# Altium integrated library Switches-relays.IntLib: 73 symbols
Pins are listed as number, name and electrical type; pins without a type are passive.

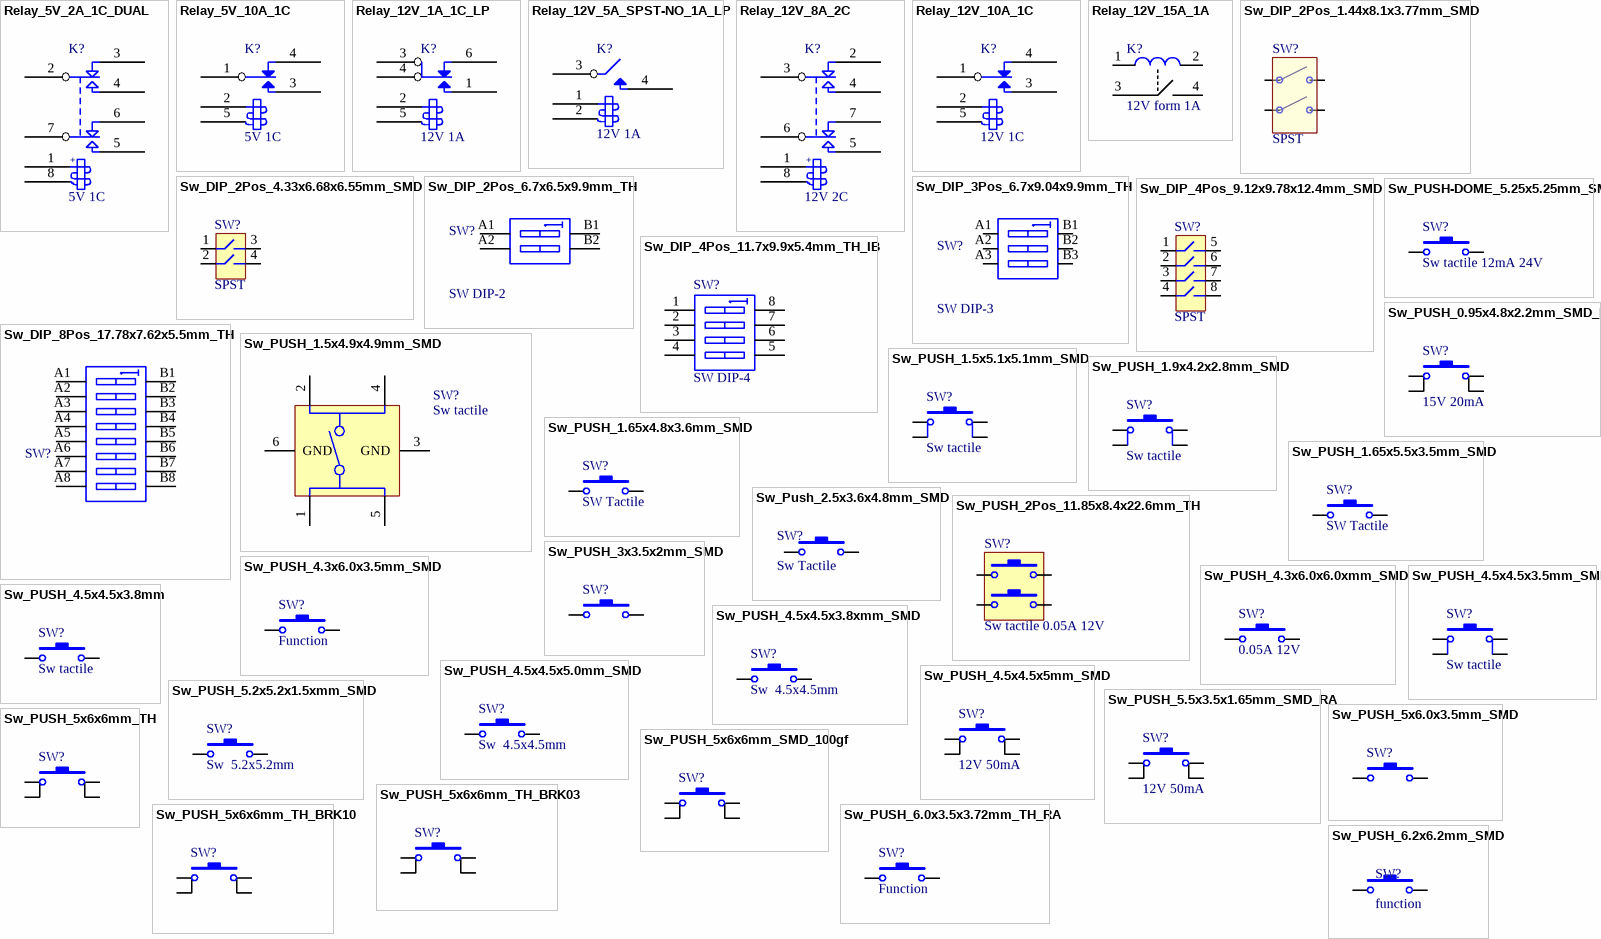
[diagram p0: symbols Relay_5V_2A_1C_DUAL to Sw_PUSH_6.2x6.2mm_SMD]

## Relay_5V_2A_1C_DUAL
designator K?, comment 5V 1C
General Purpose Non Latching 5VDC DPDT Through Hole Relays RoHS; Manufacturer: HongFa; Manufacturer Part Number: HFD27/005-S; Supplier 1: LCSC; Supplier Part Number 1: C23911; Reel Stock: N/A; Last modified by: J.Jaramillo; Last modified date: 20240310; ComponentLink1Description: LCSC; ComponentLink1URL: https://lcsc.com/product-detail/Relays_HF-Xiamen-Hongfa-Electroacoustic-HFD27-005-S_C23911.html
footprint Relay_5V_2A_1C
pins: 1, 2, 3, 4, 5, 6, 7, 8
text: +

## Relay_5V_10A_1C
designator K?, comment 5V 1C
General Purpose Non Latching 5VDC SPDT Through Hole Relays RoHS; Manufacturer: HongFa; Manufacturer Part Number: JQC-3FF-05-1ZS; Supplier 1: LCSC; Supplier Part Number 1: C9221; Reel Stock: N/A; Last modified by: J.Jaramillo; Last modified date: 20240310; ComponentLink1Description: LCSC; ComponentLink1URL: https://lcsc.com/product-detail/Relays_HF-Xiamen-Hongfa-Electroacoustic-JQC-3FF-05-1ZS-551_C9221.html
footprint Relay_12V_10A_1C (/ 20190222 / N-A.Potosi)
pins: 1, 2, 3, 4, 5

## Relay_12V_1A_1C_LP
designator K?, comment 12V 1A
General Purpose Non Latching 12VDC SPDT 1A Through Hole Relays RoHS; Manufacturer: HF(Xiamen Hongfa Electroacoustic); Manufacturer Part Number: HFD23/012-1ZS; Supplier 1: LCSC; Supplier Part Number 1: C3646; Reel Stock: N/A; Last modified by: J.Jaramillo; Last modified date: 20240310; ComponentLink1Description: LCSC; ComponentLink1URL: https://lcsc.com/product-detail/Relays_HF-Xiamen-Hongfa-Electroacoustic-HFD23-012-1ZS_C3646.html
footprint RELAY_12V_1A_1C_LP (/20201013/C-A.Serna.A)
pins: 1, 2, 3, 4, 5, 6

## Relay_12V_5A_SPST-NO_1A_LP
designator K?, comment 12V 1A
General Purpose Non Latching 12VDC SPST-NO 5A Through Hole Relays RoHS; Manufacturer: HF(Xiamen Hongfa Electroacoustic); Manufacturer Part Number: HF32FA/012-HSL1; Supplier 1: LCSC; Supplier Part Number 1: C41117; Reel Stock: N/A; Last modified by: J.Jaramillo; Last modified date: 20240310; ComponentLink1Description: LCSC; ComponentLink1URL: https://lcsc.com/product-detail/Relays_HF-Xiamen-Hongfa-Electroacoustic-HF32FA-012-HSL1_C41117.html
footprint RELAY_12V_5A_SPST-NO_1A_LP (/20201013/C-A.Serna.A)
pins: 1, 2, 3, 4

## Relay_12V_8A_2C
designator K?, comment 12V 2C
General Purpose Non Latching 12VDC DPDT 8A Through Hole Relays RoHS; Manufacturer: HF(Xiamen Hongfa Electroacoustic); Manufacturer Part Number: HF115F/012-2ZS4; Supplier 1: LCSC; Supplier Part Number 1: C163534; Reel Stock: N/A; Last modified by: J.Jaramillo; Last modified date: 20240310; ComponentLink1Description: LCSC; ComponentLink1URL: https://lcsc.com/product-detail/Relays_HF-Xiamen-Hongfa-Electroacoustic-HF115F-012-2ZS4_C163534.html
footprint Relay_12V_8A_2C (/20200408/C-A.Serna.A)
pins: 1, 2, 3, 4, 5, 6, 7, 8
text: +

## Relay_12V_10A_1C
designator K?, comment 12V 1C
RELAY GEN PURPOSE SPDT 10A 12V; Manufacturer: Omron Electronics Inc-EMC Div; Manufacturer Part Number: G5LE-14 DC12; Supplier 1: Digi-Key; Supplier Part Number 1: Z1012-ND; Reel Stock: N/A; Last modified by: J.Jaramillo; Last modified date: 20240310; ComponentLink1Description: Digi-Key; ComponentLink1URL: https://www.digikey.com/product-detail/en/omron-electronics-inc-emc-div/G5LE-14-DC12/Z1012-ND/280369
footprint Relay_5V_2A_1C (/20200131/V-A.Patino)
pins: 1, 2, 3, 4, 5

## Relay_12V_15A_1A
designator K?, comment 12V form 1A
RELAY GEN PURPOSE SPST 15A 12V; Manufacturer: Omron Electronics Inc-EMC Div; Manufacturer Part Number: G5CA-1A-E DC12; Supplier 1: Digi-Key; Supplier Part Number 1: Z2162-ND; Reel Stock: N/A; Last modified by: J.Jaramillo; Last modified date: 20240310; ComponentLink1Description: Digi-Key; ComponentLink1URL: https://www.digikey.com/products/en?keywords=Z2162-ND
footprint Relay_12V_15A_1A_10.9mm (/ 20210512 / J-E.Pachon)
pins: 1, 2, 3, 4

## Sw_DIP_2Pos_1.44x8.1x3.77mm_SMD
designator SW?, comment SPST
SWITCH SLIDE DIP SPST 25MA 24V; Manufacturer: Grayhill Inc.; Manufacturer Part Number: 97R02ST; Supplier 1: Digi-Key; Supplier Part Number 1: GH1374-ND; Reel Stock: N/A; Last modified by: J.Jaramillo; Last modified date: 20240310; ComponentLink1Description: Digi-Key; ComponentLink1URL: https://www.digikey.com/products/en?keywords=97R02ST
footprint Sw_DIP_2Pos_1.44x8.1x3.77mm (/ 20200401/ C-A.Serna.A)
pins: 1, 2, 3, 4

## Sw_DIP_2Pos_4.33x6.68x6.55mm_SMD
designator SW?, comment SPST
SWITCH SLIDE DIP SPST 100MA 20V; Manufacturer: CTS Electrocomponents; Manufacturer Part Number: 219-2MSTR; Supplier 1: Digi-Key; Supplier Part Number 1: CT3114CT-ND; Reel Stock: N/A; Last modified by: J.Jaramillo; Last modified date: 20240310; ComponentLink1Description: Digi-Key; ComponentLink1URL: https://www.digikey.com/product-detail/en/cts-electrocomponents/219-2MSTR/CT3114CT-ND/5875766
footprint Sw_DIP_2Pos_4.33x6.68x6.55mm (/ 20190222 / N-A.Potosi)
pins: 1, 2, 3, 4

## Sw_DIP_2Pos_6.7x6.5x9.9mm_TH
designator SW?, comment SW DIP-2
SWITCH SLIDE DIP SPST 0.025A 24V; Manufacturer: CUI Devices; Manufacturer Part Number: DS01-254-L-02BE; Supplier 1: Digi-Key; Supplier Part Number 1: 2223-DS01-254-L-02BE-ND; Reel Stock: N/A; Last modified by: J.Jaramillo; Last modified date: 20240319; ComponentLink1Description: Digi-Key; ComponentLink1URL: https://www.digikey.com/en/products/detail/cui-devices/DS01-254-L-02BE/11310931
footprint Sw_DIP_2Pos_6.62x6.5x9.9mm (/20240319/J.Jaramillo)
pins: A1, A2, B1, B2

## Sw_DIP_3Pos_6.7x9.04x9.9mm_TH
designator SW?, comment SW DIP-3
SWITCH SLIDE DIP SPST 0.025A 24V; Manufacturer: CUI Devices; Manufacturer Part Number: DS01C-254-L-03BE; Supplier 1: Digi-Key; Supplier Part Number 1: 2223-DS01C-254-L-03BE-ND; Reel Stock: N/A; Last modified by: J.Jaramillo; Last modified date: 2024319; ComponentLink1Description: Digi-Key; ComponentLink1URL: https://www.digikey.com/en/products/detail/cui-devices/DS01C-254-L-03BE/11310858
footprint Sw_DIP_3Pos_6.62x9.04x9.9mm (/ 20240319/ J.Jaramillo)
pins: A1 1, A2, A3, B1, B2, B3

## Sw_DIP_4Pos_9.12x9.78x12.4mm_SMD
designator SW?, comment SPST
SWITCH SLIDE DIP SPST 50MA 24V; Manufacturer: CTS Electrocomponents; Manufacturer Part Number: 204-4ST; Supplier 1: Digi-key; Supplier Part Number 1: CT2044ST-ND; Reel Stock: N/A; Last modified by: J.Jaramillo; Last modified date: 20240310; ComponentLink1Description: Digi-key; ComponentLink1URL: https://www.digikey.com/product-detail/en/cts-electrocomponents/204-4ST/CT2044ST-ND/267300
footprint Sw_DIP_4Pos_9.12x9.78x12.4mm (/ 20190916 / C-D Viveros)
pins: 1, 2, 3, 4, 5, 6, 7, 8

## Sw_DIP_4Pos_11.7x9.9x5.4mm_TH_IB
designator SW?, comment SW DIP-4
SWITCH SLIDE DIP-4WAY; Manufacturer: Cixi Tonver Elec; Manufacturer Part Number: VDG-04HG-R; Supplier 1: LCSC; Supplier Part Number 1: C15781; Reel Stock: N/A; Last modified by: J.Jaramillo; Last modified date: 20240310; ComponentLink1Description: LCSC; ComponentLink1URL: https://lcsc.com/product-detail/DIP-Switches_Cixi-Tonver-Elec-VDG-S-04HG-R_C15781.html
footprint Sw_DIP_4Pos_11.7x9.9x5.4mm_IB (/20200110/V-A.Patino)
pins: 1 A1, 2 A2, 3 A3, 4 A4, 5 B4, 6 B3, 7 B2, 8 B1

## Sw_DIP_8Pos_17.78x7.62x5.5mm_TH
designator SW?, comment SW DIP-8  (value not drawn)
SWITCH SLIDE DIP SPST 0.025A 24V; Manufacturer: CUI Devices; Manufacturer Part Number: DS01C-254-S-08BE; Supplier 1: Digi-Key; Supplier Part Number 1: 2223-DS01C-254-S-08BE-ND; Reel Stock: N/A; Last modified by: J.Jaramillo; Last modified date: 20240311; ComponentLink1Description: Digi-Key; ComponentLink1URL: https://www.digikey.com/en/products/detail/cui-devices/DS01C-254-S-08BE/11310924
footprint Sw_DIP_8Pos_17.78x7.62x5.5mm_TH (/20240310/J.Jaramillo)
pins: A1, A2, A3, A4, A5, A6, A7, A8, B1, B2, B3, B4, B5, B6, B7, B8

## Sw_PUSH-DOME_5.25x5.25mm_SMD
designator SW?, comment Sw tactile 12mA 24V
SWITCH TACTILE SPST-NO 12MA 24V; Manufacturer: Best Sun St. Co.; Manufacturer Part Number: 6-SDL-320 SS; Alternate: PC; Supplier 1: Digi-Key; Supplier Part Number 1: 5134TR; Reel Stock: N/A; Last modified by: J.Jaramillo; Last modified date: 20230616; ComponentLink1Description: Digi-Key; ComponentLink1URL: https://www.digikey.com/en/products/detail/keystone-electronics/5134TR/6834334; ComponentLink2Description: Best Sun St. Co.; ComponentLink2URL: https://bestsuneshop.com/products/metal-dome-6-sdl-320-ss
footprint SW_PUSH-DOME_5.25x5.25MM (/20230210/A-F.Romo)
pins: 1, 2

## Sw_PUSH_0.95x4.8x2.2mm_SMD_RA
designator SW?, comment 15V 20mA
SWITCH TACTILE SPST-NO 0.02A 15V; Manufacturer: Panasonic Electronic Components; Manufacturer Part Number: EVP-AEBB2A; Supplier 1: Digi-Key; Supplier Part Number 1: P15500CT-ND; Reel Stock: N/A; Last modified by: J.Jaramillo; Last modified date: 20240310; ComponentLink1Description: Digi-Key; ComponentLink1URL: https://www.digikey.com/en/products/detail/panasonic-electronic-components/EVP-AEBB2A/3182230?s=N4IgTCBcDaIKIDUAKBaAgnAQpsaQF0BfIA
footprint SW_PUSH_0.95X4.8X2.2MM_SMD_RA (SPST-NO 0.02A 15V / 20211214 / E.Naranjo)
pins: 1, 2, 3 Legs, 4 Legs

## Sw_PUSH_1.5x4.9x4.9mm_SMD
designator SW?, comment Sw tactile
SWITCH TACTILE SPST-NO 0.02A 15V; Manufacturer: Panasonic Electronic Components; Manufacturer Part Number: EVQ-PLHA15; Supplier 1: Digi-Key; Supplier Part Number 1: P8046SCT-ND; Reel Stock: N/A; Last modified by: J.Jaramillo; Last modified date: 20240310; ComponentLink1Description: Digi-Key; ComponentLink1URL: https://www.digikey.com/en/products/detail/panasonic-electronic-components/EVQ-PLHA15/49937?s=N4IgTCBcDaIAoA4AMAWAbAZQMIBUC0AcgCIgC6AvkA
footprint Sw_PUSH_1.5x4.9x4.9mm (/20220629/F-A.Ospina)
pins: 1, 2, 3 GND, 4, 5, 6 GND

## Sw_PUSH_1.5x5.1x5.1mm_SMD
designator SW?, comment Sw tactile
SWITCH TACTILE SPST-NO 0.05A 12V; Manufacturer: Poshton; Manufacturer Part Number: TCL44H-260AH; Supplier 1: Poshton; Supplier Part Number 1: TCL44H; Reel Stock: N/A; Last modified by: J.Jaramillo; Last modified date: 20240310; ComponentLink1Description: Datasheet; ComponentLink1URL: svn://54.94.62.84/Titoma_Altium_Library/Libraries/factory_datasheets
footprint Sw_PUSH_1.5x5.1x5.1mm (/20220823/F-A.Ospina)
pins: 1, 2, 3, 4

## Sw_PUSH_1.9x4.2x2.8mm_SMD
designator SW?, comment Sw tactile
SWITCH TACTILE SPST-NO 50MA 32V; Manufacturer: C&K; Manufacturer Part Number: KMR621NG LFS; Supplier 1: Digi-Key; Supplier Part Number 1: CKN10684CT-ND; Reel Stock: N/A; Last modified by: J.Jaramillo; Last modified date: 20240310; ComponentLink1Description: Digi-Key; ComponentLink1URL: https://www.digikey.com/products/en?keywords=CKN10684CT-ND
footprint Sw_PUSH_1.9x4.2x2.8mm (SPST-NO 50MA 32V / 20190222 / N-A.Potosi)
pins: 1, 2, 3, 4

## Sw_PUSH_1.65x4.8x3.6mm_SMD
designator SW?, comment SW Tactile
Side Actuated 50mA @ 12VDC Plunger for Cap SPST SMD,4.8x3.6x1.65mm Tactile Switches ROHS; Manufacturer: Korean Hroparts Elec; Manufacturer Part Number: K2-1114UA-A4SW-06; Supplier 1: LCSC; Supplier Part Number 1: C223812; Reel Stock: N/A; Last modified by: J.Jaramillo; Last modified date: 20240310; ComponentLink1Description: LCSC; ComponentLink1URL: https://lcsc.com/product-detail/Tactile-Switches_Korean-Hroparts-Elec-K2-1114UA-A4SW-06_C223812.html
footprint SW_PUSH_1.65X4.8X3.6MM (/20210810/J-E.Pachon)
pins: 1, 2

## Sw_PUSH_1.65x5.5x3.5mm_SMD
designator SW?, comment SW Tactile
SWITCH TACTILE SPST-NO 0.05A 12V; Manufacturer: Würth Elektronik; Manufacturer Part Number: 434353045816; Supplier 1: Digikey; Supplier Part Number 1: 732-7058-1-ND; Reel Stock: N/A; Last modified by: J.Jaramillo; Last modified date: 20240310; ComponentLink1Description: Digikey; ComponentLink1URL: https://www.digikey.com/en/products/detail/w%C3%BCrth-elektronik/434353045816/5209091?s=N4IgTCBcDaICwGZEFYEAY7IBwEYBsIAugL5A
footprint SW_PUSH_1.65X5.5X3.5MM (/20210201/J-E.Pachon)
pins: 1, 2

## Sw_Push_2.5x3.6x4.8mm_SMD
designator SW?, comment Sw Tactile
50mA Brick nogging SPST 100MΩ 100000 Times 250gf@±30gf 12V SMD Tactile Switches ROHS; Manufacturer: Korean Hroparts Elec; Manufacturer Part Number: K2-1114UM-B4SW-06; Supplier 1: LCSC; Supplier Part Number 1: C223813; Reel Stock: N/A; Last modified by: J.Jaramillo; Last modified date: 20240310; ComponentLink1Description: LCSC; ComponentLink1URL: https://www.lcsc.com/product-detail/Tactile-Switches_Korean-Hroparts-Elec-K2-1114UM-B4SW-06_C223813.html
footprint SW_PUSH_2.5X3.6X4.8MM_SMD (20230912 / E.Naranjo)
pins: 1, 2

## Sw_PUSH_2Pos_11.85x8.4x22.6mm_TH
designator SW?, comment Sw tactile 0.05A 12V
SWITCH TACTILE SPSTX2 0.05A 12V; Manufacturer: APEM Inc.; Manufacturer Part Number: MJTP2205D; Supplier 1: Digi-Key; Supplier Part Number 1: 679-2458-ND; Reel Stock: N/A; Last modified by: J.Jaramillo; Last modified date: 20240310; ComponentLink1Description: Digi-key; ComponentLink1URL: https://www.digikey.com/products/en?keywords=MJTP2205D
footprint Sw_PUSH_2Pos_8.35x8.4x22.6mm (/ 20190326 / V-A.Patino)
pins: 1, 2, 3, 4

## Sw_PUSH_3x3.5x2mm_SMD
designator SW?, comment Function  (value not drawn)
3mm 2mm Rectangle button 50mA Brick nogging 3.5mm SPST 12V SMD Tactile Switches ROHS; Manufacturer: Korean Hroparts Elec; Manufacturer Part Number: K2-1809SM-A4SW-06; Last modified by: J.Jaramillo; Last modified date: 20240310; Reel Stock: N/A; Supplier 1: LCSC; Supplier Part Number 1: C502305; ComponentLink2Description: LCSC; ComponentLink2URL: https://lcsc.com/product-detail/Tactile-Switches_Korean-Hroparts-Elec-K2-1809SM-A4SW-06_C502305.html
footprint Sw_PUSH_3x3.5x2mm (SPST-NO 50MA 12V / 20220722/ A-F. Romo)
pins: 1, 2

## Sw_PUSH_4.3x6.0x3.5mm_SMD
designator SW?, comment Function
SWITCH TACTILE SPST-NO 0.05A 24V; Manufacturer: TE Connectivity ALCOSWITCH Switches; Manufacturer Part Number: 147873-2; Supplier 1: Digi-Key; Supplier Part Number 1: 450-2049-1-ND; Last modified by: J.Jaramillo; Last modified date: 20240310; ComponentLink1Description: Digi-key; ComponentLink1URL: https://www.digikey.com/en/products/detail/te-connectivity-alcoswitch-switches/147873-2/2400216?s=N4IgTCBcDaICwFYAMBaMS4E4UEYUDkAREAXQF8g; Reel Stock: N/A
footprint Sw_PUSH_4.3x6.0x3.5mm (/ 20190222 / N-A.Potosi)
pins: 1, 2

## Sw_PUSH_4.3x6.0x6.0xmm_SMD
designator SW?, comment 0.05A 12V
SWITCH TACTILE SPST-NO 0.05A 12V; Manufacturer: C&K; Manufacturer Part Number: PTS645SM43SMTR92 LFS; Supplier 1: Digi-Key; Supplier Part Number 1: CKN9112CT-ND; Reel Stock: N/A; Last modified by: J.Jaramillo; Last modified date: 20240310; ComponentLink1Description: Digi-Key; ComponentLink1URL: https://www.digikey.com/products/en?keywords=CKN9112CT-ND
footprint Sw_PUSH_4.3x6.0x6.0xmm (/ 20190222 / N-A.Potosi)
pins: 1, 2

## Sw_PUSH_4.5x4.5x3.5mm_SMD
designator SW?, comment Sw tactile
4.5mm 3.5mm 50mA Round Button Brick nogging 4.5mm 12V SMD Tactile Switches ROHS; Manufacturer: BZCN; Manufacturer Part Number: TSC015A03518A; Supplier 1: LCSC; Supplier Part Number 1: C2888502; Reel Stock: N/A; Last modified by: J.Jaramillo; Last modified date: 20240310; ComponentLink1Description: LCSC; ComponentLink1URL: https://lcsc.com/product-detail/Tactile-Switches_BZCN-TSC015A03518A_C2888502.html
footprint Sw_PUSH_4.5x4.5x3.5mm (Footprint not found)
pins: 1, 2, 3, 4

## Sw_PUSH_4.5x4.5x3.8mm
designator SW?, comment Sw tactile
TACT 4.5 X 4.5, 3.8 MM H, 2.5N,; Manufacturer: C&K; Manufacturer Part Number: PTS 647 SK38 SMTR2 LFS; Supplier 1: Digi-Key; Supplier Part Number 1: PTS647SK38SMTR2LFSCT-ND; Reel Stock: N/A; Last modified by: J.Jaramillo; Last modified date: 20240310; ComponentLink1Description: Digi-Key; ComponentLink1URL: https://www.digikey.com/en/products/detail/c-k/PTS-647-SK38-SMTR2-LFS/9649862
footprint Sw_PUSH_2Pos_4.5x4.5x3.8mm (Footprint not found)
pins: 1, 2

## Sw_PUSH_4.5x4.5x3.8xmm_SMD
designator SW?, comment Sw  4.5x4.5mm
TACT 4.5 X 4.5, 3.8 MM H, 2.5N,; Manufacturer: C&K; Manufacturer Part Number: PTS 647 SK38 SMTR2 LFS; Supplier 1: Digi-Key; Supplier Part Number 1: PTS647SK38SMTR2LFSCT-ND; Reel Stock: N/A; Last modified by: J.Jaramillo; Last modified date: 20240310; ComponentLink1Description: Digi-Key; ComponentLink1URL: https://www.digikey.com/en/products/detail/c-k/PTS-647-SK38-SMTR2-LFS/9649862
footprint Sw_PUSH_4.5x4.5x3.8mm (/20210412/V-A.Patino)
pins: 1, 2

## Sw_PUSH_4.5x4.5x5.0mm_SMD
designator SW?, comment Sw  4.5x4.5mm
TACT 4.5 X 4.5, 5.0 MM H, 1.0N,; Manufacturer: C&K; Manufacturer Part Number: PTS 647 SN50 SMTR2 LFS; Supplier 1: Digi-Key; Supplier Part Number 1: PTS647SN50SMTR2LFSCT-ND; Reel Stock: N/A; Last modified by: J.Jaramillo; Last modified date: 20240310; ComponentLink1Description: Digi-Key; ComponentLink1URL: https://www.digikey.com/en/products/detail/c-k/PTS-647-SN50-SMTR2-LFS/9649857?s=N4IgTCBcDaIAoBUDKA2ALAdiQOQKwAYkBZBAJTABkAxJAYQQFpsAREAXQF8g
footprint Sw_PUSH_4.5x4.5x5.0mm (/20210713M-C.Calderon)
pins: 1, 2

## Sw_PUSH_4.5x4.5x5mm_SMD
designator SW?, comment 12V 50mA
Vertical 50mA @ 12VDC Round Button 260gf SPST SMD,4.5x4.5x5.0mm Tactile Switches ROHS; Manufacturer: XUNPU; Manufacturer Part Number: TS-1009S-05026; Supplier 1: LCSC; Supplier Part Number 1: C455246; Reel Stock: N/A; Last modified by: J.Jaramillo; Last modified date: 20240310; ComponentLink1Description: LCSC; ComponentLink1URL: https://lcsc.com/product-detail/Tactile-Switches_XUNPU-TS-1009S-05026_C455246.html
footprint Sw_PUSH_4.5x4.5x5.0MM_SMD (/20210803/C-D Viveros)
pins: 1, 2, 3, 4

## Sw_PUSH_5.2x5.2x1.5xmm_SMD
designator SW?, comment Sw  5.2x5.2mm
TACT 5.2 X 5.2, 1.5 MM H, 160GF,; Manufacturer: C&K; Manufacturer Part Number: PTS526 SM15 SMTR2 LFS; Supplier 1: Digi-Key; Supplier Part Number 1: CKN12220-1-ND; Reel Stock: N/A; Last modified by: J.Jaramillo; Last modified date: 20240310; ComponentLink1Description: Digi-Key; ComponentLink1URL: https://www.digikey.com/en/products/detail/c-k/PTS526-SM15-SMTR2-LFS/10056625
footprint SW_PUSH_5.2x5.2x1.5mm (/20210512/J-E.Pachon)
pins: 1, 2

## Sw_PUSH_5.5x3.5x1.65mm_SMD_RA
designator SW?, comment 12V 50mA
SWITCH TACTILE SPST-NO 0.05A 12V; Manufacturer: Würth Elektronik; Manufacturer Part Number: 434353045816; Supplier 1: Digi-Key; Supplier Part Number 1: 732-7058-1-ND; Reel Stock: N/A; Last modified by: J.Jaramillo; Last modified date: 20240310; ComponentLink1Description: Digi-Key; ComponentLink1URL: https://www.digikey.com/en/products/detail/w%C3%BCrth-elektronik/434353045816/5209091?s=N4IgTCBcDaICwGZEFYEAY7IBwEYBsIAugL5A
footprint Sw_PUSH_5.5x3.5x1.65mm_SMD_RA (/20210622/C-D Viveros)
pins: 1, 2, 3, 4

## Sw_PUSH_5x6.0x3.5mm_SMD
designator SW?, comment 12V 50mA  (value not drawn)
SWITCH TACTILE SPST-NO 0.05A 12V; Manufacturer: CTS Electrocomponents; Manufacturer Part Number: 222BMVBAR; Last modified by: J.Jaramillo; Last modified date: 20240310; ComponentLink1Description: Datasheet; ComponentLink1URL: www.te.com/commerce/DocumentDelivery/DDEController?Action=srchrtrv&DocNm=147873&DocType=Customer+Drawing&DocLang=English; Reel Stock: N/A; Supplier 1: Digi-Key; Supplier Part Number 1: CT3090CT-ND; ComponentLink2Description: Digi-Key; ComponentLink2URL: https://www.digikey.com/en/products/detail/cts-electrocomponents/222BMVBAR/5227983?s=N4IgTCBcDaIMIBUDMAGAnCxBaAcgERAF0BfIA
footprint Sw_PUSH_5x6.0x3.5mm (/ 20190222 / N-A.Potosi)
pins: 1, 2

## Sw_PUSH_5x6x6mm_SMD_100gf
designator SW?, comment 12V 50mA  (value not drawn)
No NO Gull Wing 50mA 6mm 100mΩ 300000 12V 100gf -20℃~+70℃ 6mm 5mm Black Round Button Brick nogging SPST SMD Tactile Switches ROHS; Manufacturer: XKB Connectivity; Manufacturer Part Number: TS-1102S-A-C-B; Last modified by: J.Jaramillo; Last modified date: 20240310; ComponentLink1Description: LCSC; ComponentLink1URL: https://lcsc.com/product-detail/Tactile-Switches_XKB-Connectivity-TS-1102S-A-C-B_C692471.html; Reel Stock: N/A; Supplier 1: LCSC; Supplier Part Number 1: C692471
footprint SW_PUSH_6X6X5MM_SMD (/20220503/V-A.Patino)
pins: 1, 2, 3, 4

## Sw_PUSH_5x6x6mm_TH
designator SW?, comment 24V 50mA  (value not drawn)
SWITCH TACTILE SPST-NO 0.05A 24V; Manufacturer: TE Connectivity ALCOSWITCH Switches; Manufacturer Part Number: 1825910-7; Last modified by: J.Jaramillo; Last modified date: 20240310; ComponentLink1Description: Digi-key; ComponentLink1URL: https://www.digikey.com/product-detail/en/te-connectivity-alcoswitch-switches/1825910-7/450-1804-ND/1731414; Reel Stock: N/A; Supplier 1: Digi-Key; Supplier Part Number 1: 450-1804-ND
footprint SW_PUSH_5X6X6MM_TH (/ C.D Viveros/ 20190823)
pins: 1, 2, 3, 4

## Sw_PUSH_5x6x6mm_TH_BRK03
designator SW?, comment 12V 50mA  (value not drawn)
SPST 50mA @ 12VDC Vertical Round Button Through Hole Tactile Switches RoHS; Manufacturer: Korean Hroparts Elec; Manufacturer Part Number: K2-1102DP-C4SW-04; Last modified by: J.Jaramillo; Last modified date: 20240310; ComponentLink1Description: LCSC; ComponentLink1URL: https://lcsc.com/product-detail/Tactile-Switches_Korean-Hroparts-Elec-K2-1102DP-C4SW-04_C110153.html; Reel Stock: N/A; Supplier 1: LCSC; Supplier Part Number 1: C110153
footprint SW_PUSH_5X6X6MM_TH (/ 20220420 / A-F. Romo)
pins: 1, 2, 3, 4

## Sw_PUSH_5x6x6mm_TH_BRK10
designator SW?, comment 12V 50mA  (value not drawn)
50mA Straight SPST 12V Plugin Tactile Switches ROHS; Manufacturer: SHOU HAN; Manufacturer Part Number: TS665CJ; Last modified by: J.Jaramillo; Last modified date: 20240310; ComponentLink1Description: LCSC; ComponentLink1URL: https://lcsc.com/product-detail/Tactile-Switches_SHOU-HAN-TS665CJ_C393938.html; Reel Stock: N/A; Supplier 1: LCSC; Supplier Part Number 1: C393938
footprint SW_PUSH_5X6X6MM_TH (/ C.D Viveros/ 20190823)
pins: 1, 2, 3, 4

## Sw_PUSH_6.0x3.5x3.72mm_TH_RA
designator SW?, comment Function
SWITCH TACTILE SPST-NO 0.05A 12V; Manufacturer: APEM Inc.; Manufacturer Part Number: MJTP1117; Supplier 1: Digi-Key; Supplier Part Number 1: 679-2400-ND; Last modified by: J.Jaramillo; Last modified date: 20240310; ComponentLink1Description: Digi-key; ComponentLink1URL: https://www.digikey.com/en/products/detail/apem-inc/MJTP1117/1795496?s=N4IgTCBcDaIGwHYCcBaMAWADJlA5AIiALoC%2BQA; Reel Stock: N/A
footprint Sw_PUSH_6.0x3.5x3.72mm_TH_RA (/ 20210831 / N-A.Potosi)
pins: 1, 2

## Sw_PUSH_6.2x6.2mm_SMD
designator SW?, comment function
SWITCH TACTILE SPST-NO 0.05A 32V; Manufacturer: C&K; Manufacturer Part Number: KSC741J LFS; Supplier 1: Digi-Key; Supplier Part Number 1: CKN10309CT-ND; Reel Stock: N/A; Last modified by: J.Jaramillo; Last modified date: 20240310; ComponentLink1Description: Digi-key; ComponentLink1URL: https://www.digikey.com/en/products/detail/c-k/KSC741J-LFS/2414968?s=N4IgTCBcDaIMIGkByBGADAZjQTjgFQFokAREAXQF8g
footprint Sw_PUSH_6.2x6.2mm_SMD (/20230904/J-E.Pachon)
pins: 1, 2

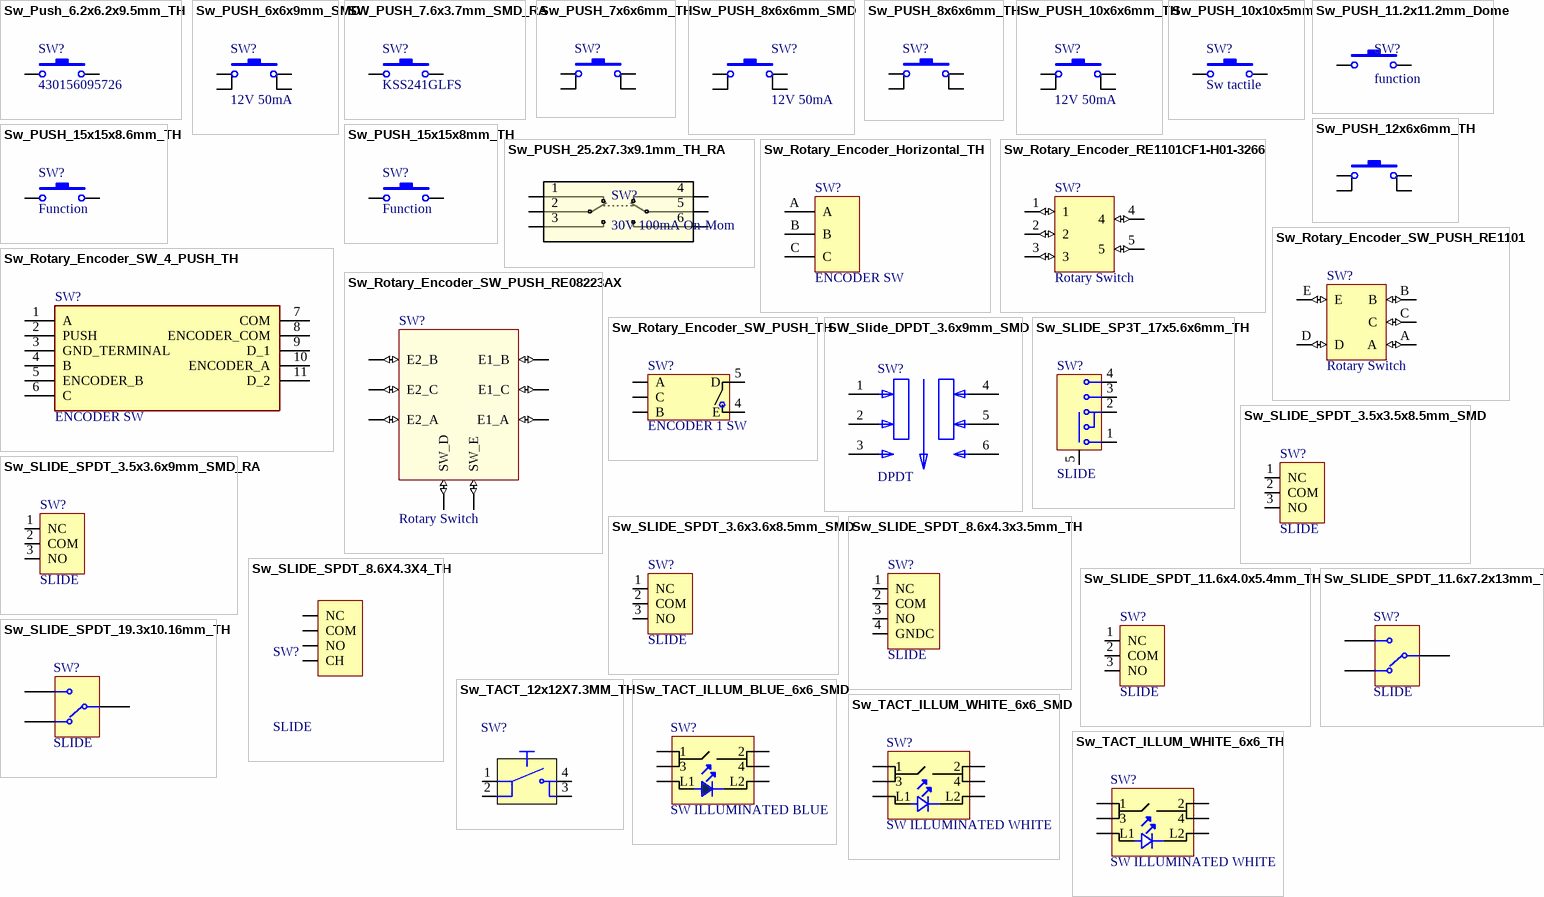
[diagram p1: symbols Sw_Push_6.2x6.2x9.5mm_TH to Sw_TACT_ILLUM_WHITE_6x6_TH]

## Sw_Push_6.2x6.2x9.5mm_TH
designator SW?, comment 430156095726
SWITCH TACTILE SPST-NO 0.05A 12V; Manufacturer: Würth Elektronik; Manufacturer Part Number: 430156095726; Supplier 1: Digi-Key; Supplier Part Number 1: 430156095726-ND; Reel Stock: N/A; Last modified by: J.Jaramillo; Last modified date: 20240310; ComponentLink1Description: Digi-Key; ComponentLink1URL: https://www.digikey.com/en/products/detail/w%C3%BCrth-elektronik/430156095726/5209012?s=N4IgTCBcDaICwGYAMBGArANiQTjQdjAxAF0BfIA
footprint Sw_Push_6.2x6.2x9.5mm_TH (/20220804/J-E.Pachon)
pins: 1, 2

## Sw_PUSH_6x6x9mm_SMD
designator SW?, comment 12V 50mA
6-X-6-MM,-9-MM-ACTUATOR-HEIGHT; Manufacturer: Xumpu; Manufacturer Part Number: TS-1002S-09026C; Supplier 1: LCSC; Supplier Part Number 1: C455118; Reel Stock: N/A; Last modified by: J.Jaramillo; Last modified date: 20240310; ComponentLink1Description: LCSC; ComponentLink1URL: https://lcsc.com/product-detail/Tactile-Switches_XUNPU-TS-1002S-09026C_C455118.html
footprint SW_PUSH_6X6X9MM_SMD (/20210826/M-C.Calderon)
pins: 1, 2, 3, 4

## SW_PUSH_7.6x3.7mm_SMD_RA
designator SW?, comment KSS241GLFS
SWITCH TACTILE SPST-NO 0.05A 50V; Manufacturer: C&K; Manufacturer Part Number: KSS241GLFS; Supplier 1: Digi-Key; Supplier Part Number 1: 401-1099-1-ND; Reel Stock: N/A; Last modified by: J.Jaramillo; Last modified date: 20240310; ComponentLink1Description: Digi-Key; ComponentLink1URL: https://www.digikey.com/en/products/detail/c-k/KSS241GLFS/417669?s=N4IgTCBcDaINIGUFgCwEYDiAZAYgkAugL5A
footprint SW_PUSH_7.6X3.7X1.7MM (20220517 / E.Naranjo)
pins: 1, 2

## Sw_PUSH_7x6x6mm_TH
designator SW?, comment 12V 50mA  (value not drawn)
-25℃~+85℃ 6mm 7mm Round Button 50mA Straight 6mm SPST 100MΩ 100000 250gf@±30gf 12V Plugin Tactile Switches ROHS; Manufacturer: Korean Hroparts Elec; Manufacturer Part Number: K2-1102DP-G4SW-04; Last modified by: J.Jaramillo; Last modified date: 20240310; ComponentLink1Description: LCSC; ComponentLink1URL: https://lcsc.com/product-detail/Tactile-Switches_Korean-Hroparts-Elec-K2-1102DP-G4SW-04_C136681.html; Reel Stock: N/A; Supplier 1: LCSC; Supplier Part Number 1: C136681
footprint SW_PUSH_7X6X6MM_TH (/ 20210112/ C-D Viveros)
pins: 1, 2, 3, 4

## Sw_PUSH_8x6x6mm_SMD
designator SW?, comment 12V 50mA
SPST 50mA @ 12VDC Vertical Round Button 6*6*8mm Tactile Switches RoHS; Manufacturer: Korean Hroparts Elec; Manufacturer Part Number: K2-6639SP-I4SC-04; Supplier 1: LCSC; Supplier Part Number 1: C879455; Reel Stock: N/A; Last modified by: J.Jaramillo; Last modified date: 20221123; ComponentLink1Description: LCSC; ComponentLink1URL: https://lcsc.com/product-detail/Tactile-Switches_Korean-Hroparts-Elec-K2-6639SP-I4SC-04_C879455.html
footprint SW_PUSH_8X6X6MM_SMD (/20221123/N-A.potosi)
pins: 1, 2, 3, 4

## Sw_PUSH_8x6x6mm_TH
designator SW?, comment 12V 50mA  (value not drawn)
SPST 50mA @ 12VDC Vertical Round Button 6*6*8mm Tactile Switches RoHS; Manufacturer: Korean Hroparts Elec; Manufacturer Part Number: K2-1102DP-I4SW-04; Last modified by: J.Jaramillo; Last modified date: 20240310; ComponentLink1Description: LCSC; ComponentLink1URL: https://lcsc.com/product-detail/Tactile-Switches_Korean-Hroparts-Elec-K2-1102DP-I4SW-04_C134186.html; Reel Stock: N/A; Supplier 1: LCSC; Supplier Part Number 1: C134186
footprint SW_PUSH_8X6X6MM_TH (/ 20210429/ M-C.Calderon)
pins: 1, 2, 3, 4

## Sw_PUSH_10x6x6mm_TH
designator SW?, comment 12V 50mA
6-X-6-MM,-10-MM-ACTUATOR-HEIGHT; Manufacturer: Korean Hroparts Elec; Manufacturer Part Number: K2-1102DP-M4SW-04; Supplier 1: LCSC; Supplier Part Number 1: C136678; Reel Stock: N/A; Last modified by: J.Jaramillo; Last modified date: 20240310; ComponentLink1Description: LCSC; ComponentLink1URL: https://lcsc.com/product-detail/Tactile-Switches_Korean-Hroparts-Elec-K2-1102DP-M4SW-04_C136678.html
footprint SW_PUSH_10X6X6MM_TH (/ 20220420 / A-F. Romo)
pins: 1, 2, 3, 4

## Sw_PUSH_10x10x5mm
designator SW?, comment Sw tactile
SPST 50mA @ 12VDC Vertical Round Button Through Hole Tactile Switches RoHS; Manufacturer: C&K; Manufacturer Part Number: KMR621NG LFS; Supplier 1: LCSC; Supplier Part Number 1: C139776; Reel Stock: N/A; Last modified by: J.Jaramillo; Last modified date: 20240310; ComponentLink1Description: Digi-Key; ComponentLink1URL: https://lcsc.com/product-detail/Tactile-Switches_ALPSALPINE-SKQBASA010_C139776.html
footprint Sw_PUSH_2Pos_10x10x5mm (/ 20210709/N-A.Potosi)
pins: 1, 2

## Sw_PUSH_11.2x11.2mm_Dome
designator SW?, comment function
SWITCH TACTILE DOME; Manufacturer: NICEONE; Manufacturer Part Number: 12-L-600; Supplier 1: NICEONE; Supplier Part Number 1: 12-L-600; Reel Stock: N/A; Last modified by: J.Jaramillo; Last modified date: 20240310; ComponentLink1Description: Datasheet; ComponentLink1URL: https://drive.google.com/drive/u/0/folders/1QsDjL2rKrWgpuPQGF-iNHu-r0ZJZP7Db
footprint Sw_PUSH_11.2x11.2mm_Dome (/20230904/J-E.Pachon)
pins: 1, 2

## Sw_PUSH_12x6x6mm_TH
designator SW?, comment 12V 50mA  (value not drawn)
-25℃~+85℃ 6mm 12mm Round Button 50mA Straight 6mm SPST 100MΩ 100000 250gf@±30gf 12V Plugin Tactile Switches ROHS; Manufacturer: Korean Hroparts Elec; Manufacturer Part Number: K2-1102DP-Q4SW-04; Last modified by: J.Jaramillo; Last modified date: 20240310; ComponentLink1Description: LCSC; ComponentLink1URL: https://lcsc.com/product-detail/Tactile-Switches_Korean-Hroparts-Elec-K2-1102DP-Q4SW-04_C136675.html; Reel Stock: N/A; Supplier 1: LCSC; Supplier Part Number 1: C136675
footprint SW_PUSH_12X6X6MM_TH (/ 20210112/ C-D Viveros)
pins: 1, 2, 3, 4

## Sw_PUSH_15x15x8.6mm_TH
designator SW?, comment Function
Push-on type S. P. S. T 12V 10mA Blue; Manufacturer: Kailh; Manufacturer Part Number: CPG135301D03; Supplier 1: Kailh; Supplier Part Number 1: CPG135301D03; Reel Stock: N/A; Last modified by: J.Jaramillo; Last modified date: 20240310; ComponentLink1Description: Kailh; ComponentLink1URL: http://www.kailh.com/en/Products/Ks/CS/757.html
footprint Sw_PUSH_2Pos_15X15X8.6mm (Kalilh Choc/ 20210226/ N-A.Potosi)
pins: 1, 2

## Sw_PUSH_15x15x8mm_TH
designator SW?, comment Function
Push-on type S. P. S. T 12V 10mA; Manufacturer: Kailh; Manufacturer Part Number: CPG135001D03; Supplier 1: LCSC; Supplier Part Number 1: C400231; Reel Stock: N/A; Last modified by: J.Jaramillo; Last modified date: 20240310; ComponentLink1Description: LCSC; ComponentLink1URL: https://lcsc.com/product-detail/Tactile-Switches_Kailh-CPG135001D03_C400231.html
footprint Sw_PUSH_2Pos_15X15X8mm (Kalilh Choc/ 20210226/ N-A.Potosi)
pins: 1, 2

## Sw_PUSH_25.2x7.3x9.1mm_TH_RA
designator SW?, comment 30V 100mA On-Mom
SWITCH PUSH DPDT 0.1A 30V; Manufacturer: E-Switch; Manufacturer Part Number: PBH2UOASNPNAGX; Supplier 1: Digi-Key; Supplier Part Number 1: 141-PBH2UOASNPNAGX-ND; Reel Stock: N/A; Last modified by: J.Jaramillo; Last modified date: 20240310; ComponentLink1Description: Digi-Key; ComponentLink1URL: https://www.digikey.com/en/products/detail/e-switch/PBH2UOASNPNAGX/16019233?s=N4IgTCBcDaIAoCEASYCqB5AggZQHJ10wHEANEAXQF8g
footprint Sw_PUSH_25.2x7.3x9.1mm_TH_RA (/20230810/J-A.Sepulveda)
pins: 1, 2, 3, 4, 5, 6

## Sw_Rotary_Encoder_Horizontal_TH
designator SW?, comment ENCODER SW
Through Hole Coded Rotary Switches ROHS; Manufacturer: ALPSALPINE; Manufacturer Part Number: EC11B15202AN; Supplier 1: LCSC; Supplier Part Number 1: C470697; Reel Stock: N/A; Last modified by: J.Jaramillo; Last modified date: 20240310; ComponentLink1Description: LCSC; ComponentLink1URL: https://lcsc.com/product-detail/Coded-Rotary-Switches_ALPSALPINE-EC11B15202AN_C470697.html
footprint SW_ROTARY_ENCODER_EC11B15202AN (/20210902/M-C.Calderon)
pins: A, B, C

## Sw_Rotary_Encoder_RE1101CF1-H01-3266
designator SW?, comment Rotary Switch
ENCODER SINGLE, 25MM LONG WITH BUTTON; Manufacturer: LJV; Manufacturer Part Number: RE1101CF1-H01-3266; Supplier 1: LJV; Supplier Part Number 1: RE1101CF1-H01-3266; Reel Stock: N/A; Last modified by: J.Jaramillo; Last modified date: 20240310
footprint SW_ROTARY_ENCODER_RE1101CF1-H01-3266 (/20210827/M-C.Calderon)
pins: 1 (io), 2 (io), 3 (io), 4 (io), 5 (io)

## Sw_Rotary_Encoder_SW_4_PUSH_TH
designator SW?, comment ENCODER SW
MULTI DIRECTIONAL SWITCH ENCODER; Manufacturer: ALPSALPINE; Manufacturer Part Number: RKJXT1F42001; Supplier 1: LCSC; Supplier Part Number 1: C160841; Reel Stock: N/A; Last modified by: J.Jaramillo; Last modified date: 20240310; ComponentLink1Description: LCSC; ComponentLink1URL: https://lcsc.com/product-detail/Multi-Directional-Switches_ALPSALPINE-RKJXT1F42001_C160841.html
footprint SW_ROTARY_ENCODER_RKJXT1F42001_11 (/20210728/M-C.Calderon)
pins: 1 A, 2 PUSH, 3 GND_TERMINAL, 4 B, 5 ENCODER_B, 6 C, 7 COM, 8 ENCODER_COM, 9 D_1, 10 ENCODER_A, 11 D_2

## Sw_Rotary_Encoder_SW_PUSH_RE1101
designator SW?, comment Rotary Switch
ROTATORY SWITCH ENCODER; Manufacturer: LJV; Manufacturer Part Number: RE1101CE1-H01-5023; Supplier 1: Ainuowei; Supplier Part Number 1: RE1101CE1-H01-5023; Reel Stock: N/A; Last modified by: J.Jaramillo; Last modified date: 20240310
footprint SW_ROTARY_ENCODER_RE1101CE1-H01-5023 (/20210818/C-D Viveros)
pins: A (io), B (io), C (io), D (io), E (io)

## Sw_Rotary_Encoder_SW_PUSH_RE08223AX
designator SW?, comment Rotary Switch
ROTARY SWITCH ENCODER; Manufacturer: LJV; Manufacturer Part Number: RE08223AX-V02-0493; Supplier 1: LJV; Supplier Part Number 1: RE08223AX-V02-0493; Reel Stock: N/A; Last modified by: J.Jaramillo; Last modified date: 20240310; ComponentLink1Description: Datasheet; ComponentLink1URL: http://ljvraphael.blogspot.com/2016/08/ljv-dual-shaft-rotary-encoder-re08223ax.html
footprint SW_ROTARY_ENCODER_RE08223AX-V02-0493 (/20210831/N-A.Potosi)
pins: E1_A (io), E1_B (io), E1_C (io), E2_A (io), E2_B (io), E2_C (io), SW_D (io), SW_E (io)

## Sw_Rotary_Encoder_SW_PUSH_TH
designator SW?, comment ENCODER 1 SW
ROTARY ENCODER MECHANICAL 24PPR; Manufacturer: TT Electronics/BI; Manufacturer Part Number: EN12-HS22AF20; Supplier 1: Digi-Key; Supplier Part Number 1: 987-1195-ND; Reel Stock: N/A; Last modified by: J.Jaramillo; Last modified date: 20240310; ComponentLink1Description: Digi-Key; ComponentLink1URL: https://www.digikey.com/en/products/detail/tt-electronics-bi/EN12-HS22AF20/2408773
footprint Sw_Rotary_Encoder_Sw_Push_20x14x13.2MM (/ V-A.Patino/ 20201230)
pins: 1 A, 2 C, 3 B, 4 E, 5 D

## SW_Slide_DPDT_3.6x9mm_SMD
designator SW?, comment DPDT
SWITCH SLIDE DPDT 300MA 6V; Manufacturer: C&K; Manufacturer Part Number: JS202011SCQN; Supplier 1: Digi-Key; Supplier Part Number 1: 401-2002-1-ND; Reel Stock: N/A; Last modified by: J.Jaramillo; Last modified date: 20240310; ComponentLink1Description: Digi-Key; ComponentLink1URL: https://www.digikey.com/en/products/detail/c-k/JS202011SCQN/2094299
footprint SW_Slide_DPDT_3.6x9mm_SMD (/20220503/J-E.Pachon)
pins: 1, 2, 3, 4, 5, 6

## Sw_SLIDE_SP3T_17x5.6x6mm_TH
designator SW?, comment SLIDE
SWITCH SLIDE SP3T 200MA 30V; Manufacturer: C&K; Manufacturer Part Number: OS103012MU1QP1; Supplier 1: Digi-Key; Supplier Part Number 1: CKN9552-ND; Reel Stock: N/A; Last modified by: J.Jaramillo; Last modified date: 20240310; ComponentLink1Description: Digi-Key; ComponentLink1URL: https://www.digikey.com/en/products/detail/c-k/OS103012MU1QP1/1981423?s=N4IgTCBcDaIPIGUCMAGAzCpYCyBVJAigApIgC6AvkA
footprint Sw_SLIDE_SP3T_17x5.6x7.7mm_TH (/20210512/ J-E.Pachon)
pins: 1, 2 COM, 3, 4, 5

## Sw_SLIDE_SPDT_3.5x3.5x8.5mm_SMD
designator SW?, comment SLIDE
SWITCH SLIDE SPDT 200MA 12V; Manufacturer: Nidec Copal Electronics; Manufacturer Part Number: CL-SB-12B-01T; Supplier 1: Digi-Key; Supplier Part Number 1: 563-1318-1-ND; Reel Stock: N/A; Last modified by: J.Jaramillo; Last modified date: 20240310; ComponentLink1Description: Digi-Key; ComponentLink1URL: https://www.digikey.com/en/products/detail/nidec-copal-electronics/CL-SB-12B-01T/3507823?s=N4IgTCBcDaIMIBkC0BlAQkgjGDAGTAKiALoC%2BQA
footprint Sw_SLIDE_SPDT_3.5x3.5x8.5mm (/20201215/M-C.Calderon)
pins: 1 NC, 2 COM, 3 NO

## Sw_SLIDE_SPDT_3.5x3.6x9mm_SMD_RA
designator SW?, comment SLIDE
SWITCH SLIDE SPDT 300MA 6V; Manufacturer: C&K; Manufacturer Part Number: JS102011SAQN; Supplier 1: Digi-Key; Supplier Part Number 1: 401-1999-1-ND; Reel Stock: N/A; Last modified by: J.Jaramillo; Last modified date: 20240310; ComponentLink1Description: Digi-Key; ComponentLink1URL: https://www.digikey.com/product-detail/en/c-k/JS102011SAQN/401-1999-1-ND/1640114
footprint Sw_SLIDE_SPDT_3.5x3.6x9mm
pins: 1 NC, 2 COM, 3 NO

## Sw_SLIDE_SPDT_3.6x3.6x8.5mm_SMD
designator SW?, comment SLIDE
SWITCH SLIDE SPDT 300MA 6V; Manufacturer: C&K; Manufacturer Part Number: JS102011JCQN; Supplier 1: Digi-Key; Supplier Part Number 1: CKN10721CT-ND; Reel Stock: N/A; Last modified by: J.Jaramillo; Last modified date: 20240310; ComponentLink1Description: Digi-Key; ComponentLink1URL: https://www.digikey.com/product-detail/en/c-k/JS102011JCQN/CKN10721CT-ND/6137635
footprint Sw_SLIDE_SPDT_3.6x3.6x8.5mm_SMD (/ 20191008 / C-D Viveros)
pins: 1 NC, 2 COM, 3 NO

## Sw_SLIDE_SPDT_8.6x4.3x3.5mm_TH
designator SW?, comment SLIDE
SWITCH SLIDE SPDT 200MA 30V; Manufacturer: TE Connectivity ALCOSWITCH Switches; Manufacturer Part Number: 1825232-1; Supplier 1: Digi-Key; Supplier Part Number 1: A107673-ND; Reel Stock: N/A; Last modified by: J.Jaramillo; Last modified date: 20240310; ComponentLink1Description: Digi-Key; ComponentLink1URL: https://www.digikey.com/product-detail/es/te-connectivity-alcoswitch-switches/1825232-1/A107673-ND/4021554
footprint Sw_SLIDE_SPDT_8.6x4.3x3.5mm_TH (/ 20191211 / C-D Viveros)
pins: 1 NC, 2 COM, 3 NO, 4 GNDC

## Sw_SLIDE_SPDT_8.6X4.3X4_TH
designator SW?, comment SLIDE
SWITCH SLIDE SPDT 100MA 12V; Manufacturer: C&K; Manufacturer Part Number: OS102011MS2QN1; Supplier 1: Digi-Key; Supplier Part Number 1: CKN9565-ND; Reel Stock: N/A; Last modified by: J.Jaramillo; Last modified date: 20240310; ComponentLink1Description: Digi-Key; ComponentLink1URL: https://www.digikey.com/en/products/detail/c-k/OS102011MS2QN1/411602; ComponentLink2Description: Datasheet; ComponentLink2URL: chrome-extension://efaidnbmnnnibpcajpcglclefindmkaj/https://www.ckswitches.com/media/1428/os.pdf
footprint Sw_SLIDE_SPDT_8.86x4.5x4.8mm_TH (/ 20231112 / J.Jaramillo)
pins: 1 NC, 2 COM, 3 NO, CH

## Sw_SLIDE_SPDT_11.6x4.0x5.4mm_TH
designator SW?, comment SLIDE
SWITCH SLIDE SPDT 200MA 30V; Manufacturer: E-Switch; Manufacturer Part Number: EG1218; Supplier 1: Digi-Key; Supplier Part Number 1: EG1903-ND; Reel Stock: N/A; Last modified by: J.Jaramillo; Last modified date: 20240310; ComponentLink1Description: Digi-Key; ComponentLink1URL: https://www.digikey.com/product-detail/en/e-switch/EG1218/EG1903-ND/101726
footprint Sw_SLIDE_SPDT_11.6x4.0x5.4mm_TH (/ 20190916 / C-D Viveros)
pins: 1 NC, 2 COM, 3 NO

## Sw_SLIDE_SPDT_11.6x7.2x13mm_TH
designator SW?, comment SLIDE
Straight 6A SPDT 120V 6.6mm 120V 13mm 7.2mm 6A PCPin 10000 Rectangular columnar -40℃~+85℃ Black Plugin Slide Switches ROHS; Manufacturer: XKB Connectivity; Manufacturer Part Number: SS-12M11G5; Supplier 1: LCSC; Supplier Part Number 1: C2879839; Reel Stock: N/A; Last modified by: J.Jaramillo; Last modified date: 20240310; ComponentLink1Description: LCSC; ComponentLink1URL: https://lcsc.com/product-detail/Slide-Switches_XKB-Connectivity-SS-12M11G5_C2879839.html
footprint SW_SLIDE_SPDT_11.6X7.2X13MM (20220902 / E.Naranjo)
pins: 1, 2, 3

## Sw_SLIDE_SPDT_19.3x10.16mm_TH
designator SW?, comment SLIDE
SWITCH SLIDE SPDT 4A 125V; Manufacturer: C&K; Manufacturer Part Number: L102021ML04Q; Reel Stock: N/A; Last modified by: J.Jaramillo; Last modified date: 20240310; Supplier 1: Digi-Key; Supplier Part Number 1: CKC5102-ND; ComponentLink1Description: Digi-key; ComponentLink1URL: https://www.digikey.com/product-detail/en/c-k/L102021ML04Q/CKC5102-ND/181454
footprint SW_SLIDE_SPDT_19.3x10.16mm (20190327 / V-A.Patino)
pins: 1 pos1, 2 com, 3 pos2

## Sw_TACT_12x12X7.3MM_TH
designator SW?, comment SW TACTILE 12MMX12MM  (value not drawn)
Tactile Switches SPST 12x12mm Std Ht .3 High-force 260g; Manufacturer: Omron Electronics; Manufacturer Part Number: B3F-4055; Supplier 1: LCSC; Supplier Part Number 1: C84931; Reel Stock: N/A; Last modified by: J.Jaramillo; Last modified date: 200326; ComponentLink1Description: LCSC; ComponentLink1URL: https://www.lcsc.com/product-detail/C84931.html; ComponentLink2Description: Datasheet; ComponentLink2URL: https://www.lcsc.com/datasheet/C84931.pdf?spm=wm.sxq.inf.ggs&lcsc_vid=QFgKXlMHQFdeXgVREVdcUFdXFQMMXlADQgBeUQdfR1ExVlNRQ1FcUlVSQlZcVDsOAxUeFF5JWBYZEEoBGA4JCwFIFA4DSA%3D%3D
footprint SW_TACT_12X12x7.3mm_TH (/200326/J.Jaramillo)
pins: 1 COM, 2 COM, 3 NO, 4 NO

## Sw_TACT_ILLUM_BLUE_6x6_SMD
designator SW?, comment SW ILLUMINATED BLUE
SMT BLUE ILLUMINATED TACT SWITCH 6X6 MM; Manufacturer: SHENZHEN RUCOE ELECTRONICS CO.,LTD; Manufacturer Part Number: TS8-0000UA; Supplier 1: RUCOE; Supplier Part Number 1: TS8-0000UA; Reel Stock: N/A; Last modified by: J.Jaramillo; Last modified date: 20240310
footprint SW_TACT_ILLUM_6X6_SMD (/20210709/M-C.Calderon)
footprint SW_TACT_ILLUM_6X6_SMD_WIDE (/20230425/J-A.Sepulveda)
pins: 1, 2, 3, 4, L1, L2

## Sw_TACT_ILLUM_WHITE_6x6_SMD
designator SW?, comment SW ILLUMINATED WHITE
SMT WHITE ILLUMINATED TACT SWITCH 6X6 MM; Manufacturer: SHENZHEN RUCOE ELECTRONICS CO.,LTD; Manufacturer Part Number: TS8-0000WA; Supplier 1: RUCOE; Supplier Part Number 1: TS8-0000WA; Reel Stock: N/A; Last modified by: J.Jaramillo; Last modified date: 20240310; ComponentLink1Description: data-sheet; ComponentLink1URL: http://www.rucoe.com/ProDetail.aspx?ProId=169
footprint SW_TACT_ILLUM_6X6_SMD (/20210709/M-C.Calderon)
footprint SW_TACT_ILLUM_6X6_SMD_WIDE (/20230425/J-A.Sepulveda)
pins: 1, 2, 3, 4, L1, L2

## Sw_TACT_ILLUM_WHITE_6x6_TH
designator SW?, comment SW ILLUMINATED WHITE
White NO 50mA 100MΩ 50000次 250gf@±50gf 12V Straight SPST Plugin Tactile Switches ROHS; Manufacturer: BRIGHT; Manufacturer Part Number: TSL061G72-250B; Supplier 1: LCSC; Supplier Part Number 1: C354965; Reel Stock: N/A; Last modified by: J.Jaramillo; Last modified date: 20240310; ComponentLink1Description: LCSC; ComponentLink1URL: https://lcsc.com/product-detail/Tactile-Switches_BRIGHT-TSL061G72-250B_C354965.html
footprint SW_TACT_ILLUM_6X6_TH (/20210812/C-D Viveros)
pins: 1, 2, 3, 4, L1, L2